# Altium footprint library 直插.PcbLib: 159 footprints (part 7 of 10)
Each footprint in its own frame and in the unit in brackets; x right, y up, seen from the top. Pads: shape width x height; smd on the part's side, far side on the other; paste and mask are expansions set on the pad; w line width, h text height; cw(c..) or ccw(c..) is an arc to the next point about the centre after c.
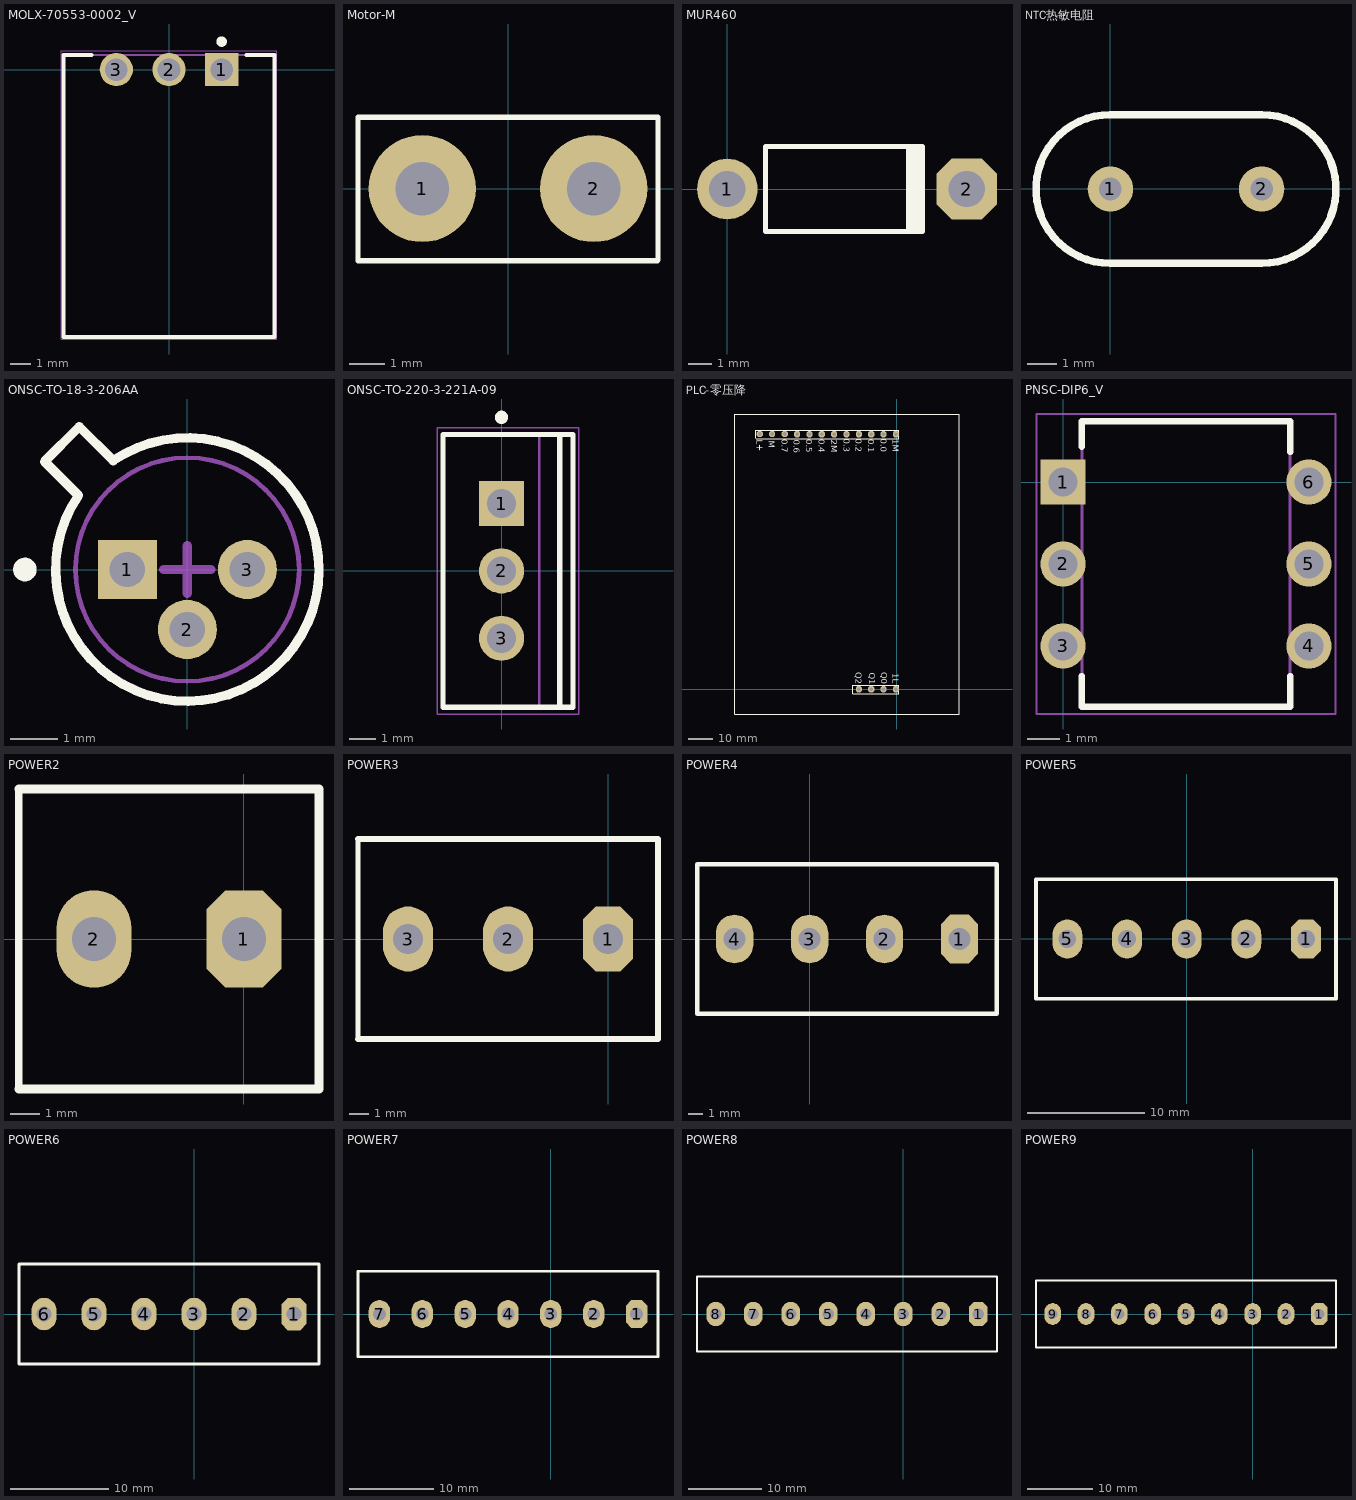
[diagram p6: the footprints below, top view; thin cyan lines are the x and y axes]

## MOLX-70553-0002_V [mm] "Male Header, 2-Leads, Body 13.59x10.17mm, Pitch 2.54mm"
height 6.99
pads (3):
  rect 1.6x1.6 hole 1.09: 1(2.54,0)
  round 1.6 hole 1.09: 2(0,0) 3(-2.54,0)
Top Overlay:
  circle w0.25: c2.54,1.35 r0.125
  lines w0.2: -3.74,0.7 -5.085,0.7 -5.085,-12.89 5.085,-12.89 5.085,0.7 3.74,0.7
Mechanical 13:
  lines w0.1: -5.085,-12.89 -5.085,0.7 5.085,0.7 5.085,-12.89 -5.085,-12.89
Mechanical 15:
  lines w0.05: -5.185,-12.99 -5.185,0.9 5.185,0.9 5.185,-12.99 -5.185,-12.99
  lines w0.1: -0.5,0 0.5,0 ; 0,-0.5 0,0.5
3D body: height 6.98, standoff -3.3, extent -5.08,-12.889 5.08,0.7

## Motor-M [mm] "4.0mm*8.4mm,焊盘间距4.8mm,焊盘内径1.5mm，外径3.0mm"
pads (2):
  round 3 hole 1.5: 1(-2.4,0) 2(2.4,0)
Top Overlay:
  lines w0.15: 4.177,-2.023 -4.2,-2.023 -4.2,2 4.2,2 4.2,-2

## MUR460 [mil]
pads (2):
  round 100 hole 60: 1(0,0)
  oct 100x100 hole 60: 2(394.76,0)
Top Overlay:
  rectangle: 294.87,-70 326.36,70
  lines w7.87: 322.36,-37.4 322.36,-70 183.94,-70 62.99,-70 62.99,70 183.94,70 322.36,70 322.36,37.4

## NTC热敏电阻 [mil]
height 629.92
pads (2):
  round 60 hole 30: 1(0,0) 2(200,0)
Top Overlay:
  lines w10: 0,98.42 200,98.42 ; 0,98.43 ccw(c0,0) 0,-98.43 200,-98.43 ccw(c200,0) 200,98.43

## ONSC-TO-18-3-206AA [mm] "TO, 3-Leads, Diameter 5.575 mm"
height 6.6
pads (3):
  rect 1.25x1.25 hole 0.75: 1(-1.27,0)
  round 1.25 hole 0.75: 2(0,-1.27) 3(1.27,0)
Top Overlay:
  circle w0.25: c-3.438,0 r0.125
  lines w0.2: -2.306,1.57 -3.021,2.286 -2.286,3.021 -1.569,2.305 ; -2.304,1.569 ccw(c0,0) -1.569,2.304
Mechanical 13:
  circle w0.1: c0,0 r2.368
  lines w0.1: -3.021,2.286 -2.286,3.021 -1.569,2.305 cw(c0,0) -2.305,1.569 -3.021,2.286
Mechanical 15:
  lines w0.2: -0.5,0 0.5,0 ; 0,-0.5 0,0.5
3D body: height 6.6, standoff 1.27, extent -2.378,-2.378 2.378,2.378
3D body: height 2.03, standoff 1.27, extent -3.022,-2.797 2.797,3.022

## ONSC-TO-220-3-221A-09 [mm] "FM, 3-Leads, Body 10.3x4.85mm, Pitch 2.54mm"
height 19.85
pads (3):
  rect 1.7x1.7 hole 1.1: 1(0,2.54)
  round 1.7 hole 1.1: 2(0,0) 3(0,-2.54)
Top Overlay:
  circle w0.25: c0,5.8 r0.125
  lines w0.2: 2.195,-5.15 2.195,5.15 ; -2.205,-5.15 -2.205,5.15 2.695,5.15 2.695,-5.15 -2.205,-5.15
Mechanical 13:
  lines w0.1: 1.42,-5.15 1.42,5.15 ; -2.18,-5.15 2.67,-5.15 2.67,5.15 -2.18,5.15 -2.18,-5.15
Mechanical 15:
  lines w0.05: -2.43,-5.4 2.92,-5.4 2.92,5.4 -2.43,5.4 -2.43,-5.4
  lines w0.1: -0.5,0 0.5,0 ; 0,-0.5 0,0.5
3D body: height 19.85, standoff 18.98, extent 1.42,-4.975 2.67,4.975
3D body: height 17.43, standoff 17.05, extent 1.42,-4.975 2.67,-1.925
3D body: height 17.43, standoff 17.05, extent 1.42,1.925 2.67,4.975
3D body: height 17.05, standoff 16.67, extent 1.42,-4.975 2.67,-1.925
3D body: height 17.05, standoff 16.67, extent 1.42,1.925 2.67,4.975
3D body: height 17.79, standoff 17.43, extent 1.42,-4.975 2.67,-1.888
3D body: height 17.79, standoff 17.43, extent 1.42,1.888 2.67,4.975
3D body: height 16.68, standoff 16.31, extent 1.42,-4.975 2.67,-1.888
3D body: height 16.68, standoff 16.31, extent 1.42,1.888 2.67,4.975
3D body: height 18.12, standoff 17.79, extent 1.42,-4.975 2.67,-1.778
3D body: height 18.12, standoff 17.79, extent 1.42,1.778 2.67,4.975
3D body: height 16.32, standoff 15.98, extent 1.42,-4.975 2.67,-1.778
3D body: height 16.32, standoff 15.98, extent 1.42,1.778 2.67,4.975
3D body: height 18.42, standoff 18.12, extent 1.42,-4.975 2.67,-1.601
3D body: height 18.42, standoff 18.12, extent 1.42,1.601 2.67,4.975
3D body: height 15.99, standoff 15.69, extent 1.42,-4.975 2.67,-1.601
3D body: height 15.99, standoff 15.69, extent 1.42,1.601 2.67,4.975
3D body: height 18.66, standoff 18.41, extent 1.42,-4.975 2.67,-1.361
3D body: height 18.66, standoff 18.41, extent 1.42,1.361 2.67,4.975
3D body: height 15.69, standoff 15.45, extent 1.42,-4.975 2.67,-1.361
3D body: height 15.69, standoff 15.45, extent 1.42,1.361 2.67,4.975
3D body: height 18.83, standoff 18.65, extent 1.42,-4.975 2.67,-1.069
3D body: height 18.83, standoff 18.65, extent 1.42,1.069 2.67,4.975
3D body: height 15.45, standoff 15.27, extent 1.42,-4.975 2.67,-1.069
3D body: height 15.45, standoff 15.27, extent 1.42,1.069 2.67,4.975
3D body: height 18.94, standoff 18.83, extent 1.42,-4.975 2.67,-0.737
3D body: height 18.94, standoff 18.83, extent 1.42,0.737 2.67,4.975
3D body: height 15.28, standoff 15.16, extent 1.42,-4.975 2.67,-0.737
3D body: height 15.28, standoff 15.16, extent 1.42,0.737 2.67,4.975
3D body: height 18.98, standoff 18.94, extent 1.42,-4.975 2.67,-0.376
3D body: height 18.98, standoff 18.94, extent 1.42,0.376 2.67,4.975
3D body: height 15.17, standoff 15.13, extent 1.42,-4.975 2.67,-0.376
3D body: height 15.17, standoff 15.13, extent 1.42,0.376 2.67,4.975
3D body: height 15.13, standoff 13.65, extent 1.42,-4.975 2.67,4.975
3D body: height 13.65, standoff 2.8, extent -2.18,-5.15 2.67,5.15
3D body: height 0, standoff -1.6, extent -0.25,-2.93 0.25,-2.15
3D body: height 2.8, standoff 0, extent -0.25,-3.21 0.25,-1.87
3D body: height 0, standoff -1.6, extent -0.25,-0.39 0.25,0.39
3D body: height 2.8, standoff 0, extent -0.25,-0.67 0.25,0.67
3D body: height 0, standoff -1.6, extent -0.25,2.15 0.25,2.93
3D body: height 2.8, standoff 0, extent -0.25,1.87 0.25,3.21

## PLC-零压降 [mil]
pads (16):
  oct 100x100 hole 59.06: 0(-2219,4136) 0(-2019,4136) 0(-1814,4136) 0(-1614,4131) 0(-1414,4131) 0(-1214,4131) 0(-1014,4131) 0(-814,4131) 0(-614,1) 0(-614,4131) 0(-414,1) 0(-414,4131) 0(-214,1) 0(-214,4131) 0(-14,1) 0(-14,4131)
Top Overlay:
  lines w10: 1010,3430 1010,4460 -1221,4460 -2560,4460 -2618,4460 -2623,4455 -2623,-399 1011,-399 1011,3462
  lines w12: -2284,4066 -2284,4196 -1969,4196 -1884,4196 -184,4196 36,4196 36,4136 ; -2279,4061 -2024,4061 -1879,4061 ; -1884,4061 36,4061 36,4176 ; -714,-69 -714,66 -64,66 ; -714,-24 -714,-74 -64,-74 36,-74 ; -184,66 36,66 36,6 ; 36,-69 36,46
  text "1M" at -63,4049 h100
  text "0.0" at -257,4061 h100
  text "0.1" at -462,4053 h100
  text "0.3" at -861,4061 h100
  text "2M" at -1065,4042 h100
  text "0.4" at -1263,4053 h100
  text "0.5" at -1468,4049 h100
  text "0.6" at -1665,4046 h100
  text "0.7" at -1863,4049 h100
  text "1L" at -66,260 h100
  text "Q0" at -250,280 h100
  text "Q1" at -448,270 h100
  text "M" at -2073,4027 h100
  text "L+" at -2265,4043 h100
  text "0.2" at -663,4061 h100
  text "Q2" at -663,277 h100
Bottom Overlay:
  lines w10: -11,3902 -11,3969

## PNSC-DIP6_V [mm] "DIP, 6-Leads, Body 6.45x8.85 mm, Pitch2.54 mm"
height 4.1
pads (6):
  rect 1.4x1.4 hole 0.9 mask+0.102: 1(0,0)
  round 1.4 hole 0.9 mask+0.102: 2(0,-2.54) 3(0,-5.08) 4(7.62,-5.08) 5(7.62,-2.54) 6(7.62,0)
Top Overlay:
  lines w0.2: 0.585,-6.012 0.585,-6.965 7.035,-6.965 7.035,-6.012 ; 0.585,1.1 0.585,1.885 7.035,1.885 7.035,0.932
Mechanical 13:
  lines w0.1: 0.585,-6.965 7.035,-6.965 7.035,1.885 0.585,1.885 0.585,-6.965
Mechanical 15:
  lines w0.05: -0.825,-7.19 8.445,-7.19 8.445,2.11 -0.825,2.11 -0.825,-7.19
3D body: height 4.1, standoff 0.4, extent 0.585,-6.965 7.035,1.885

## POWER2 [mil]
pads (2):
  oct 100x130 hole 59.06: 1(0,0)
  oval 100x130 hole 59.06: 2(-200,0)
Top Overlay:
  lines w10: -300,-200 -300,200
  lines w12: -300,-200 100,-200 100,200 -300,200

## POWER3 [mil]
pads (3):
  oct 100x130 hole 59.06: 1(0,0)
  oval 100x130 hole 59.06: 2(-200,0) 3(-400,0)
Top Overlay:
  lines w10: -500,-200 -500,200
  lines w12: -500,-200 100,-200 100,200 -500,200

## POWER4 [mil]
pads (4):
  oct 100x130 hole 59.06: 1(400,0)
  oval 100x130 hole 59.06: 2(200,0) 3(0,0) 4(-200,0)
Top Overlay:
  lines w12: -300,-200 500,-200 500,200 -300,200 -300,-200

## POWER5 [mil]
pads (5):
  oct 100x130 hole 59.06: 1(400,0)
  oval 100x130 hole 59.06: 2(200,0) 3(0,0) 4(-200,0) 5(-400,0)
Top Overlay:
  lines w12: -505,-200 -505,200 500,200 500,-200 -505,-200

## POWER6 [mil]
pads (6):
  oct 100x130 hole 59.06: 1(400,0)
  oval 100x130 hole 59.06: 2(200,0) 3(0,0) 4(-200,0) 5(-400,0) 6(-600,0)
Top Overlay:
  lines w12: -700,-200 500,-200 500,200 -700,200 -700,-200

## POWER7 [mil]
pads (7):
  oct 100x130 hole 59.06: 1(400,0)
  oval 100x130 hole 59.06: 2(200,0) 3(0,0) 4(-200,0) 5(-400,0) 6(-600,0) 7(-800,0)
Top Overlay:
  lines w12: -900,-200 -900,200 500,200 500,-200 -900,-200

## POWER8 [mil]
pads (8):
  oct 100x130 hole 59.06: 1(400,0)
  oval 100x130 hole 59.06: 2(200,0) 3(0,0) 4(-200,0) 5(-400,0) 6(-600,0) 7(-800,0) 8(-1000,0)
Top Overlay:
  lines w12: -1100,-200 500,-200 500,200 -1100,200 -1100,-200

## POWER9 [mil]
pads (9):
  oct 100x130 hole 59.06: 1(400,0)
  oval 100x130 hole 59.06: 2(200,0) 3(0,0) 4(-200,0) 5(-400,0) 6(-600,0) 7(-800,0) 8(-1000,0) 9(-1200,0)
Top Overlay:
  lines w12: -1300,-200 500,-200 500,200 -1300,200 -1300,-200